# Altium footprint library OpenBrewie.PcbLib: 12 footprints
Each footprint in its own frame and in the unit in brackets; x right, y up, seen from the top. Pads: shape width x height; smd on the part's side, far side on the other; paste and mask are expansions set on the pad; w line width, h text height; cw(c..) or ccw(c..) is an arc to the next point about the centre after c.
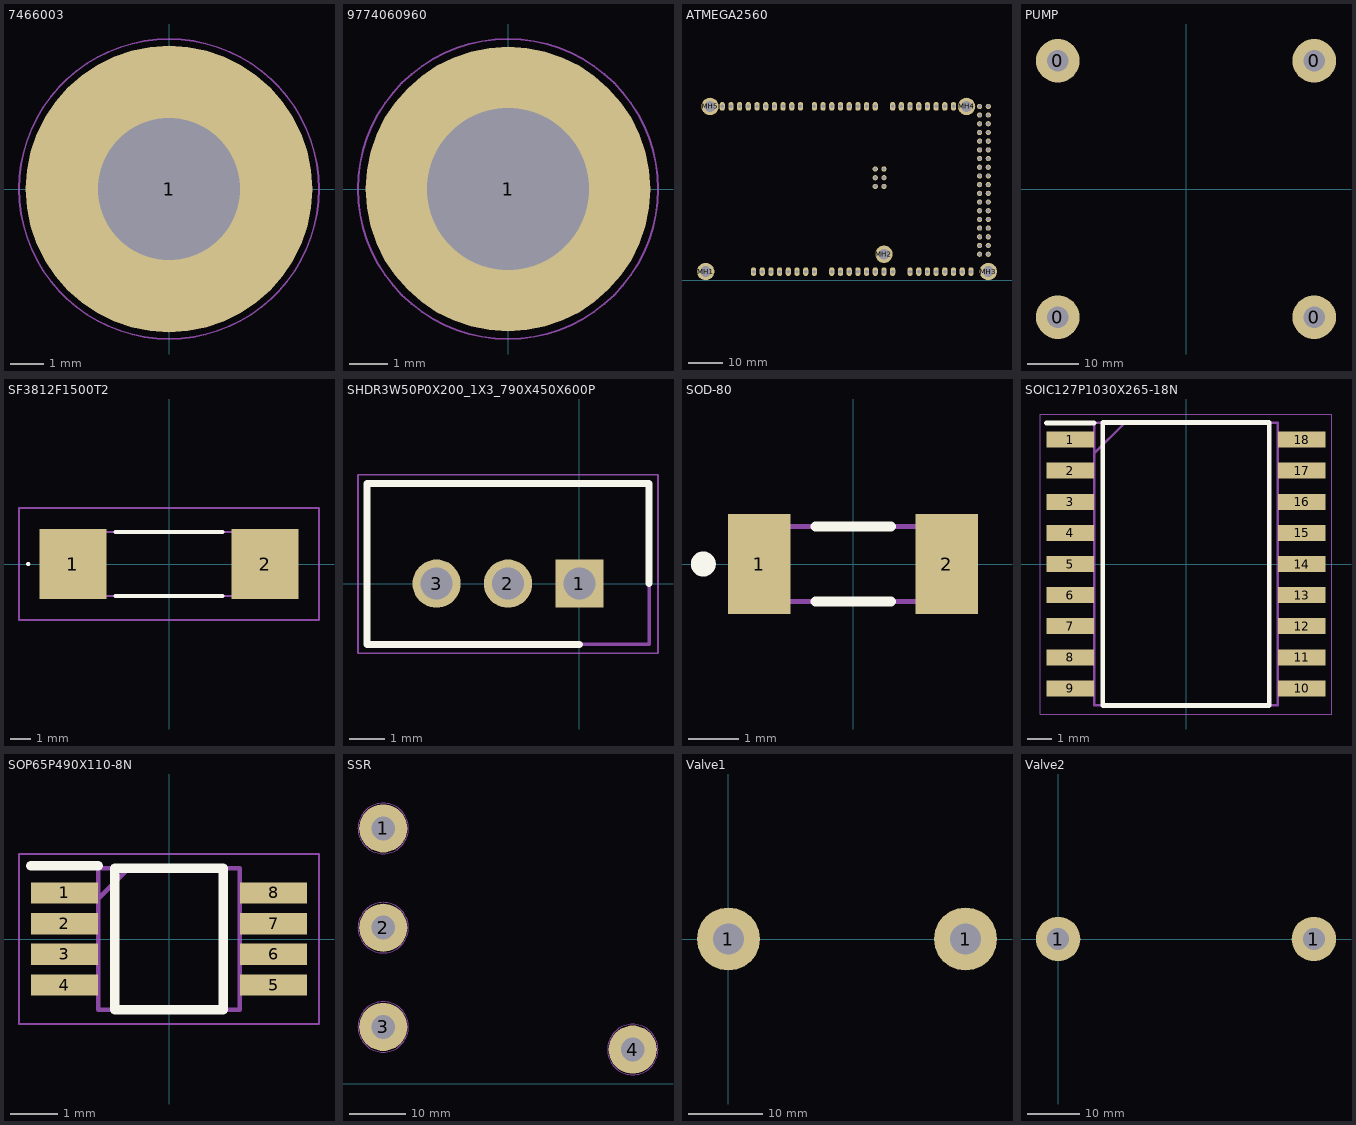
[diagram p0: the footprints below, top view; thin cyan lines are the x and y axes]

## 7466003 [mm] "SMD with internal through-hole thread, M3-6mm"
height 5
pads (1):
  round 8.5 / inner round 0 / far side round 0 hole 4.2: 1(0,0)
Top Paste:
  region: 0.5,4.119 0.5,2.193 0.501,2.193 0.654,2.153 0.948,2.04 1.224,1.888 1.476,1.698 1.699,1.475 1.888,1.223 2.041,0.947 2.153,0.653 2.194,0.5 4.12,0.5 4.092,0.728 3.986,1.176 3.832,1.61 3.63,2.023 3.384,2.412 3.097,2.771 2.771,3.097 2.412,3.384 2.023,3.63 1.61,3.832 1.176,3.986 0.728,4.092
  region: 4.119,-0.5 2.193,-0.5 2.193,-0.501 2.153,-0.654 2.04,-0.948 1.888,-1.224 1.698,-1.476 1.475,-1.699 1.223,-1.888 0.947,-2.041 0.653,-2.153 0.5,-2.194 0.5,-4.12 0.728,-4.092 1.176,-3.986 1.61,-3.832 2.023,-3.63 2.412,-3.384 2.771,-3.097 3.097,-2.771 3.384,-2.412 3.63,-2.023 3.832,-1.61 3.986,-1.176 4.092,-0.728
  region: -0.5,-4.119 -0.5,-2.193 -0.501,-2.193 -0.654,-2.153 -0.948,-2.04 -1.224,-1.888 -1.476,-1.698 -1.699,-1.475 -1.888,-1.223 -2.041,-0.947 -2.153,-0.653 -2.194,-0.5 -4.12,-0.5 -4.092,-0.728 -3.986,-1.176 -3.832,-1.61 -3.63,-2.023 -3.384,-2.412 -3.097,-2.771 -2.771,-3.097 -2.412,-3.384 -2.023,-3.63 -1.61,-3.832 -1.176,-3.986 -0.728,-4.092
  region: -4.119,0.5 -2.193,0.5 -2.193,0.501 -2.153,0.654 -2.04,0.948 -1.888,1.224 -1.698,1.476 -1.475,1.699 -1.223,1.888 -0.947,2.041 -0.653,2.153 -0.5,2.194 -0.5,4.12 -0.728,4.092 -1.176,3.986 -1.61,3.832 -2.023,3.63 -2.412,3.384 -2.771,3.097 -3.097,2.771 -3.384,2.412 -3.63,2.023 -3.832,1.61 -3.986,1.176 -4.092,0.728
Mechanical 11:
  circle w0.1: c0,0 r3.5
Mechanical 13:
  circle w0.1: c0,0 r3.5
Mechanical 15:
  circle w0.05: c0,0 r4.45
  lines w0.05: -0.5,0 0.5,0 ; 0,-0.5 0,0.5
3D body "7466003.stp": height 5, standoff -1, extent -3.5,-3.5 3.5,3.497

## 9774060960 [mm] "SMT Steel Spacer Internal hole diameter 3.3mm non stop, height 6mm"
height 6
pads (1):
  round 7.4 / inner round 0 / far side round 0 hole 4.22: 1(0,0)
Top Paste:
  region: 0.4,3.613 0.4,2.204 0.566,2.167 0.886,2.057 1.186,1.9 1.46,1.699 1.699,1.46 1.9,1.186 2.057,0.886 2.167,0.566 2.204,0.4 3.613,0.4 3.59,0.603 3.5,1.003 3.365,1.389 3.188,1.759 2.97,2.105 2.715,2.426 2.426,2.715 2.105,2.97 1.759,3.188 1.389,3.365 1.003,3.5 0.603,3.59
  region: 3.613,-0.4 2.204,-0.4 2.167,-0.566 2.057,-0.886 1.9,-1.186 1.699,-1.46 1.46,-1.699 1.186,-1.9 0.886,-2.057 0.566,-2.167 0.4,-2.204 0.4,-3.613 0.603,-3.59 1.003,-3.5 1.389,-3.365 1.759,-3.188 2.105,-2.97 2.426,-2.715 2.715,-2.426 2.97,-2.105 3.188,-1.759 3.365,-1.389 3.5,-1.003 3.59,-0.603
  region: -0.4,-3.613 -0.4,-2.204 -0.566,-2.167 -0.886,-2.057 -1.186,-1.9 -1.46,-1.699 -1.699,-1.46 -1.9,-1.186 -2.057,-0.886 -2.167,-0.566 -2.204,-0.4 -3.613,-0.4 -3.59,-0.603 -3.5,-1.003 -3.365,-1.389 -3.188,-1.759 -2.97,-2.105 -2.715,-2.426 -2.426,-2.715 -2.105,-2.97 -1.759,-3.188 -1.389,-3.365 -1.003,-3.5 -0.603,-3.59
  region: -3.613,0.4 -2.204,0.4 -2.167,0.566 -2.057,0.886 -1.9,1.186 -1.699,1.46 -1.46,1.699 -1.186,1.9 -0.886,2.057 -0.566,2.167 -0.4,2.204 -0.4,3.613 -0.603,3.59 -1.003,3.5 -1.389,3.365 -1.759,3.188 -2.105,2.97 -2.426,2.715 -2.715,2.426 -2.97,2.105 -3.188,1.759 -3.365,1.389 -3.5,1.003 -3.59,0.603
Mechanical 11:
  circle w0.1: c0,0 r3
Mechanical 13:
  circle w0.1: c0,0 r3
Mechanical 15:
  circle w0.05: c0,0 r3.9
  lines w0.05: -0.5,0 0.5,0 ; 0,-0.5 0,0.5
3D body "9774060960.stp": height 6, standoff -1.4, extent -3,-3 3,3

## ATMEGA2560 [mil]
pads (97):
  oval 60x100 hole 40: 1(1100,100) 2(1200,100) 3(1300,100) 4(1400,100) 5(1500,100) 6(1600,100) 7(1700,100) 8(1800,100) 9(2000,100) 10(2100,100) 11(2200,100) 12(2300,100) 13(2400,100) 14(2500,100) 15(2600,100) 16(2700,100) 17(2900,100) 18(3000,100) 19(3100,100) 20(3200,100) 21(3300,100) 22(3400,100) 23(3500,100) 24(3600,100) 25(3400,2000) 26(3300,2000) 27(3200,2000) 28(3100,2000) 29(3000,2000) 30(2900,2000) 31(2800,2000) 32(2700,2000) 33(2500,2000) 34(2400,2000) 35(2300,2000) 36(2200,2000) 37(2100,2000) 38(2000,2000) 39(1900,2000) 40(1800,2000) 41(1640,2000) 42(1540,2000) 43(1440,2000) 44(1340,2000) 45(1240,2000) 46(1140,2000) 47(1040,2000) 48(940,2000) 49(840,2000) 50(740,2000)
  round 60 hole 40: 51(3700,2000) 52(3800,2000) 53(3700,1900) 54(3800,1900) 55(3700,1800) 56(3800,1800) 57(3700,1700) 58(3800,1700) 59(3700,1600) 60(3800,1600) 61(3700,1500) 62(3800,1500) 63(3700,1400) 64(3800,1400) 65(3700,1300) 66(3800,1300) 67(3700,1200) 68(3800,1200) 69(3700,1100) 70(3800,1100) 71(3700,1000) 72(3800,1000) 73(3700,900) 74(3800,900) 75(3700,800) 76(3800,800) 77(3700,700) 78(3800,700) 79(3700,600) 80(3800,600) 81(3700,500) 82(3800,500) 83(3700,400) 84(3800,400) 85(3700,300) 86(3800,300) 87(2500,1280) 88(2600,1280) 89(2500,1180) 90(2600,1180) 91(2500,1080) 92(2600,1080)
  round 200 hole 125: MH1(550,100) MH2(2600,300) MH3(3800,100) MH4(3550,2000)
  round 200 hole 125 mask+0: MH5(600,2000)

## PUMP [mm]
pads (4):
  round 8.5 / inner round 0 / far side round 0 hole 4.2: 0(-25,-25) 0(-25,25) 0(25,-25) 0(25,25)

## SF3812F1500T2 [mm]
pads (2):
  rect 3.25x3.43 smd: 1(-4.675,0) 2(4.675,0)
Top Overlay:
  lines w0.1: -6.9,0 ccw(c-6.85,0) -6.8,0 ccw(c-6.85,0) -6.9,0
  lines w0.2: -2.6,-1.55 2.6,-1.55 ; -2.6,1.55 2.6,1.55
Mechanical 13:
  lines w0.1: -5.05,-1.55 5.05,-1.55 5.05,1.55 -5.05,1.55 -5.05,-1.55
Mechanical 15:
  lines w0.1: -7.3,-2.715 7.3,-2.715 7.3,2.715 -7.3,2.715 -7.3,-2.715
3D body "SF-3812F1500T-2.stp": height 3.1, standoff 0, extent -5.05,-1.55 5.05,1.55

## SHDR3W50P0X200_1X3_790X450X600P [mm]
pads (3):
  rect 1.35x1.35 hole 0.9: 1(0,0)
  round 1.35 hole 0.9: 2(-2,0) 3(-4,0)
Top Overlay:
  lines w0.2: 0,-1.7 -5.95,-1.7 -5.95,2.8 1.95,2.8 1.95,0
Mechanical 13:
  lines w0.1: -5.95,-1.7 1.95,-1.7 1.95,2.8 -5.95,2.8 -5.95,-1.7
Mechanical 15:
  lines w0.05: -6.2,-1.95 2.2,-1.95 2.2,3.05 -6.2,3.05 -6.2,-1.95
3D body "B3B-PH-K-S_LF__SN_.stp": height 6, standoff -3.4, extent -5.95,-1.7 1.95,2.8

## SOD-80 [mm]
pads (2):
  rect 1.25x2 smd: 1(-1.875,0) 2(1.875,0)
Top Overlay:
  circle w0.25: c-3,0 r0.125
  lines w0.2: -0.75,-0.75 0.75,-0.75 ; -0.75,0.75 0.75,0.75
Mechanical 13:
  lines w0.1: -1.5,-0.75 -1.5,0.75 ; -1.75,-0.75 -1.75,0.75 1.75,0.75 1.75,-0.75 -1.75,-0.75
3D body "LL4148-GS18.stp": height 1.6, standoff 0, extent -1.85,-0.783 1.85,0.783

## SOIC127P1030X265-18N [mm]
pads (18):
  rect 1.95x0.65 smd: 1(-4.725,5.08) 2(-4.725,3.81) 3(-4.725,2.54) 4(-4.725,1.27) 5(-4.725,0) 6(-4.725,-1.27) 7(-4.725,-2.54) 8(-4.725,-3.81) 9(-4.725,-5.08) 10(4.725,-5.08) 11(4.725,-3.81) 12(4.725,-2.54) 13(4.725,-1.27) 14(4.725,0) 15(4.725,1.27) 16(4.725,2.54) 17(4.725,3.81) 18(4.725,5.08)
Top Overlay:
  lines w0.2: -5.7,5.755 -3.75,5.755 ; -3.4,-5.775 -3.4,5.775 3.4,5.775 3.4,-5.775 -3.4,-5.775
Mechanical 13:
  lines w0.1: -3.75,4.505 -2.48,5.775 ; -3.75,-5.775 -3.75,5.775 3.75,5.775 3.75,-5.775 -3.75,-5.775
Mechanical 15:
  lines w0.05: -5.95,-6.125 -5.95,6.125 5.95,6.125 5.95,-6.125 -5.95,-6.125
3D body "ULN2803ADWRG4.stp": height 2.65, standoff 0, extent -5.15,-5.775 5.15,5.775

## SOP65P490X110-8N [mm]
pads (8):
  rect 1.425x0.45 smd: 1(-2.212,0.975) 2(-2.212,0.325) 3(-2.212,-0.325) 4(-2.212,-0.975) 5(2.212,-0.975) 6(2.212,-0.325) 7(2.212,0.325) 8(2.212,0.975)
Top Overlay:
  lines w0.2: -2.925,1.55 -1.5,1.55 ; -1.15,-1.5 1.15,-1.5 1.15,1.5 -1.15,1.5 -1.15,-1.5
Mechanical 13:
  lines w0.1: -1.5,0.85 -0.85,1.5 ; -1.5,-1.5 1.5,-1.5 1.5,1.5 -1.5,1.5 -1.5,-1.5
Mechanical 15:
  lines w0.05: -3.175,-1.8 3.175,-1.8 3.175,1.8 -3.175,1.8 -3.175,-1.8
3D body "DS18B20U+.stp": height 1.1, standoff 0, extent -2.452,-1.5 2.452,1.5

## SSR [mm]
pads (4):
  round 8.5 / inner round 0 / far side round 0 hole 4.2: 1(10,45) 2(10,27.5) 3(10,10) 4(54,6)
Top Paste:
  drawing of 16 lines, arcs and shapes, not listed
Mechanical 11:
  circle w0.1: c10,10 r3.5
  circle w0.1: c10,27.5 r3.5
  circle w0.1: c10,45 r3.5
  circle w0.1: c54,6 r3.5
Mechanical 13:
  circle w0.1: c10,10 r3.5
  circle w0.1: c10,27.5 r3.5
  circle w0.1: c10,45 r3.5
  circle w0.1: c54,6 r3.5
Mechanical 15:
  circle w0.05: c10,10 r4.45
  circle w0.05: c10,27.5 r4.45
  circle w0.05: c10,45 r4.45
  circle w0.05: c54,6 r4.45
  lines w0.05: 9.5,10 10.5,10 ; 9.5,27.5 10.5,27.5 ; 9.5,45 10.5,45 ; 10,9.5 10,10.5 ; 10,27 10,28 ; 10,44.5 10,45.5 ; 53.5,6 54.5,6 ; 54,5.5 54,6.5
3D body "7466003.stp": height 5, standoff -1, extent 6.5,6.5 13.5,13.497
3D body "7466003.stp": height 5, standoff -1, extent 6.5,24 13.5,30.997
3D body "7466003.stp": height 5, standoff -1, extent 6.5,41.5 13.5,48.497
3D body "7466003.stp": height 5, standoff -1, extent 50.5,2.5 57.5,9.497
3D body "SSR.step": height 26, standoff -11.55, extent 0,0 60,55

## Valve1 [mm]
pads (2):
  round 8.5 / inner round 0 / far side round 0 hole 4.2: 1(0,0) 1(32,0)
3D body "7466003.stp": height 5, standoff -1, extent 28.5,-3.5 35.5,3.497
3D body "7466003.stp": height 5, standoff -1, extent -3.5,-3.5 3.5,3.497
3D body "valve v3.step": height 89.01, standoff 5.01, extent -14,-40 63,27

## Valve2 [mm]
pads (2):
  round 8.5 / inner round 0 / far side round 0 hole 4.2: 1(0,0) 1(49,0)
3D body "7466003.stp": height 5, standoff -1, extent 45.5,-3.497 52.5,3.497
3D body "7466003.stp": height 5, standoff -1, extent -3.5,-3.5 3.5,3.497
3D body "valve v3.step": height 89.01, standoff 5.01, extent -13,-26.6 64,40.4